# EAGLE library part CY8C4247AZI-M485 (library PatternAgents-Cypress)
Cypress PSoC® 4 - Programmable System on Chip, Cortex-M0 Based http://www.cypress.com/?mpn=CY8C4247AZI-M485 LBR Source: http://www.patternagents.com THIS SOFTWARE IS PROVIDED BY THE CONTRIBUTORS "AS IS" AND WITHOUT ANY EXPRESS OR IMPLIED WARRANTIES, INCLUDING, BUT NOT LIMITED TO, THE IMPLIED WARRANTIES OF MERCHANTABILITY AND FITNESS FOR A PARTICULAR PURPOSE ARE DISCLAIMED. IN NO EVENT SHALL THE COPYRIGHT OWNER OR CONTRIBUTORS BE LIABLE FOR ANY DIRECT, INDIRECT, INCIDENTAL, SPECIAL, EXEMPLARY, OR CONSEQUENTIAL DAMAGES (INCLUDING, BUT NOT LIMITED TO, PROCUREMENT OF SUBSTITUTE GOODS OR SERVICES; LOSS OF USE, DATA, OR PROFITS; OR BUSINESS INTERRUPTION) HOWEVER CAUSED AND ON ANY THEORY OF LIABILITY, WHETHER IN CONTRACT, STRICT LIABILITY, OR TORT (INCLUDING NEGLIGENCE OR OTHERWISE) ARISING IN ANY WAY OUT OF THE USE OF THIS SOFTWARE, EVEN IF ADVISED OF THE POSSIBILITY OF SUCH DAMAGE.
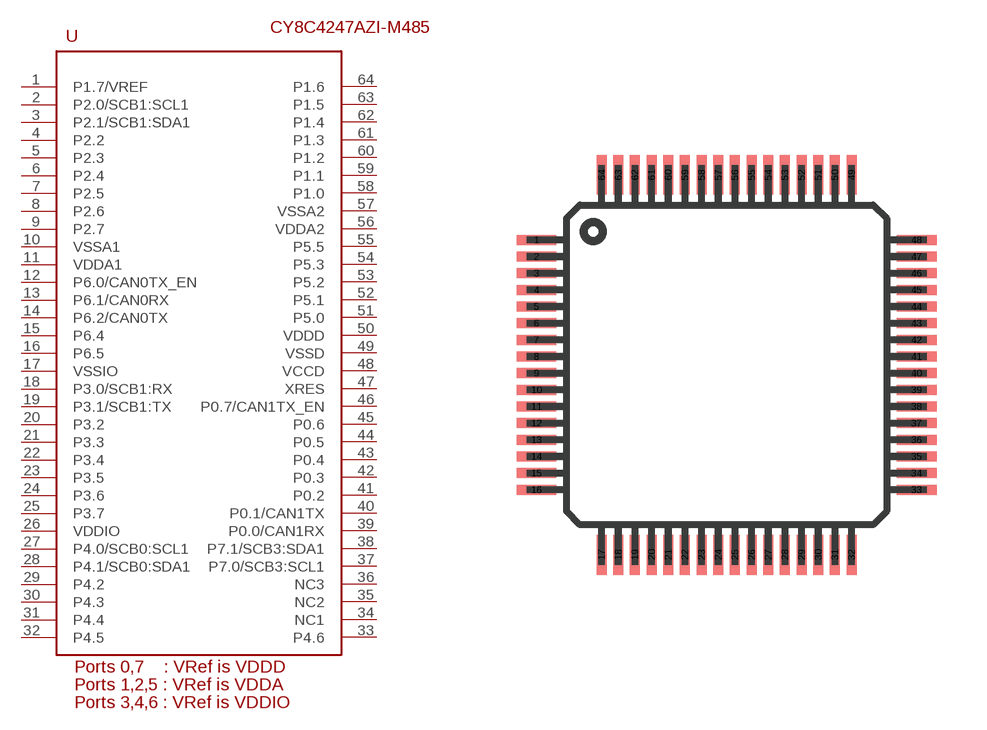
[diagram p35: symbol with the pads of TQFP-10X10-64; footprint TQFP-10X10-64]

Designator prefix U

## CY8C4247AZI-M485  [TQFP-10X10-64]
1  P1.7/VREF
2  P2.0/SCB1:SCL1
3  P2.1/SCB1:SDA1
4  P2.2
5  P2.3
6  P2.4
7  P2.5
8  P2.6
9  P2.7
10  VSSA1
11  VDDA1
12  P6.0/CAN0TX_EN
13  P6.1/CAN0RX
14  P6.2/CAN0TX
15  P6.4
16  P6.5
17  VSSIO
18  P3.0/SCB1:RX
19  P3.1/SCB1:TX
20  P3.2
21  P3.3
22  P3.4
23  P3.5
24  P3.6
25  P3.7
26  VDDIO
27  P4.0/SCB0:SCL1
28  P4.1/SCB0:SDA1
29  P4.2
30  P4.3
31  P4.4
32  P4.5
33  P4.6
34  NC1
35  NC2
36  NC3
37  P7.0/SCB3:SCL1
38  P7.1/SCB3:SDA1
39  P0.0/CAN1RX
40  P0.1/CAN1TX
41  P0.2
42  P0.3
43  P0.4
44  P0.5
45  P0.6
46  P0.7/CAN1TX_EN
47  XRES
48  VCCD
49  VSSD
50  VDDD
51  P5.0
52  P5.1
53  P5.2
54  P5.3
55  P5.5
56  VDDA2
57  VSSA2
58  P1.0
59  P1.1
60  P1.2
61  P1.3
62  P1.4
63  P1.5
64  P1.6

## Footprint TQFP-10X10-64 (pad centres in mm)
Thin Quad Flat Pack package type TQ
smd 1.2 x 0.3: 1 -5.7,3.75; 2 -5.7,3.25; 3 -5.7,2.75; 4 -5.7,2.25; 5 -5.7,1.75; 6 -5.7,1.25; 7 -5.7,0.75; 8 -5.7,0.25; 9 -5.7,-0.25; 10 -5.7,-0.75; 11 -5.7,-1.25; 12 -5.7,-1.75; 13 -5.7,-2.25; 14 -5.7,-2.75; 15 -5.7,-3.25; 16 -5.7,-3.75; 33 5.7,-3.75; 34 5.7,-3.25; 35 5.7,-2.75; 36 5.7,-2.25; 37 5.7,-1.75; 38 5.7,-1.25; 39 5.7,-0.75; 40 5.7,-0.25; 41 5.7,0.25; 42 5.7,0.75; 43 5.7,1.25; 44 5.7,1.75; 45 5.7,2.25; 46 5.7,2.75; 47 5.7,3.25; 48 5.7,3.75
smd 0.3 x 1.2: 17 -3.75,-5.7; 18 -3.25,-5.7; 19 -2.75,-5.7; 20 -2.25,-5.7; 21 -1.75,-5.7; 22 -1.25,-5.7; 23 -0.75,-5.7; 24 -0.25,-5.7; 25 0.25,-5.7; 26 0.75,-5.7; 27 1.25,-5.7; 28 1.75,-5.7; 29 2.25,-5.7; 30 2.75,-5.7; 31 3.25,-5.7; 32 3.75,-5.7; 49 3.75,5.7; 50 3.25,5.7; 51 2.75,5.7; 52 2.25,5.7; 53 1.75,5.7; 54 1.25,5.7; 55 0.75,5.7; 56 0.25,5.7; 57 -0.25,5.7; 58 -0.75,5.7; 59 -1.25,5.7; 60 -1.75,5.7; 61 -2.25,5.7; 62 -2.75,5.7; 63 -3.25,5.7; 64 -3.75,5.7